# EAGLE library part 3-5435640-9 (library Switches)
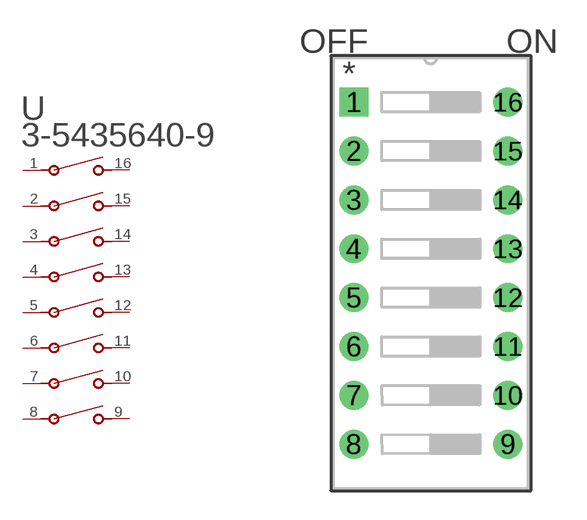
[diagram p37: symbol with the pads of SWDIP16_315X360P100; footprint SWDIP16_315X360P100]

Designator prefix U

## 3-5435640-9 (BUILT_BY: EMA_UL_Team; CATEGORY: DIP & SIP Switches; COPYRIGHT: Copyright (C) 2016 Accelerated Designs. All rights reserved; DESCRIPTION: DIP SW 8 POSN SEALED; MANUFACTURER_PART_NUMBER: 3-5435640-9; PART_STATUS: active; SERIES: Alcoswitch 7100; VENDOR: TE Connectivity)  [SWDIP16_315X360P100]
1  1  pas
2  2  pas
3  3  pas
4  4  pas
5  5  pas
6  6  pas
7  7  pas
8  8  pas
9  9  pas
10  10  pas
11  11  pas
12  12  pas
13  13  pas
14  14  pas
15  15  pas
16  16  pas

## Footprint SWDIP16_315X360P100 (pad centres in mm)
drill 0.991 pad 1.499 square: 1 -8.001,17.78
drill 0.991 pad 1.499: 2 -8.001,15.24; 3 -8.001,12.7; 4 -8.001,10.16; 5 -8.001,7.62; 6 -8.001,5.08; 7 -8.001,2.54; 8 -8.001,0; 9 0,0; 10 0,2.54; 11 0,5.08; 12 0,7.62; 13 0,10.16; 14 0,12.7; 15 0,15.24; 16 0,17.78